# Altium footprint library GC-PcbLib1.PcbLib: 22 footprints (part 2 of 2)
Each footprint in its own frame and in the unit in brackets; x right, y up, seen from the top. Pads: shape width x height; smd on the part's side, far side on the other; paste and mask are expansions set on the pad; w line width, h text height; cw(c..) or ccw(c..) is an arc to the next point about the centre after c.
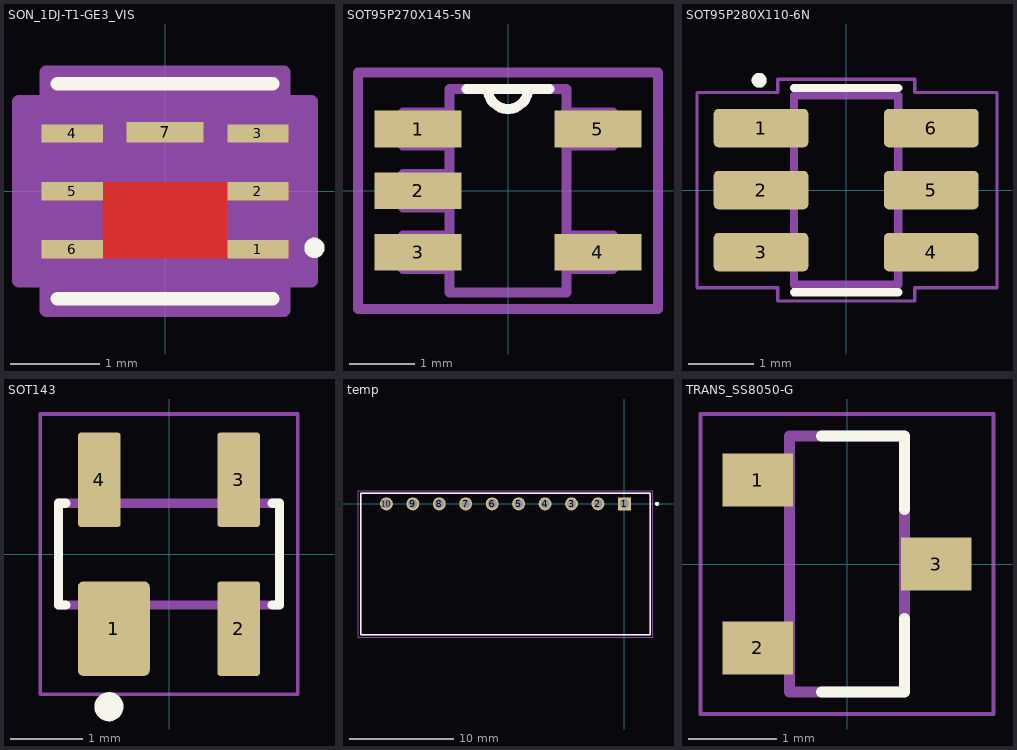
[diagram p1: the footprints below, top view; thin cyan lines are the x and y axes]

## SON_1DJ-T1-GE3_VIS [mil]
pads (7):
  rect 27x8 smd paste+0 mask+0: 1(41,-25.59) 2(41,0) 3(41,25.59) 4(-41,25.59) 5(-41,0) 6(-41,-25.59)
  rect 34x9 smd paste-17 mask-17: 7(0,26.14)
Top Layer:
  region: -54.5,-4 -54.5,4 54.5,4 54.5,-4 27.5,-4 27.5,-21.59 54.5,-21.59 54.5,-29.59 -54.5,-29.59 -54.5,-21.59 -27.5,-21.59 -27.5,-4
Top Overlay:
  circle w5: c66,-25 r2
  lines w6: -47.5,-47.5 47.5,-47.5 ; -47.5,47.5 47.5,47.5
Top Paste:
  region: -54.5,4 27.5,4 54.5,4 54.5,-4 27.5,-4 27.5,-21.59 54.5,-21.59 54.5,-29.59 -54.5,-29.59 -54.5,-21.59 -27.5,-21.59 -27.5,-4 -54.5,-4
Top Solder:
  region: -54.5,-4 -54.5,4 54.5,4 54.5,-4 27.5,-4 27.5,-21.59 54.5,-21.59 54.5,-29.59 -54.5,-29.59 -54.5,-21.59 -27.5,-21.59 -27.5,-4
Top 3D Body:
  lines w0: -12,42.5 ccw(c0,42.5) 12,42.5
  lines w1: -42.5,-42.5 42.5,-42.5 42.5,42.5 -42.5,42.5 -42.5,-42.5
Top Courtyard:
  region: -52.5,-39.59 -64.5,-39.59 -64.5,39.59 -52.5,39.59 -52.5,52.5 52.5,52.5 52.5,39.59 64.5,39.59 64.5,-39.59 52.5,-39.59 52.5,-52.5 -52.5,-52.5
  lines w6: -64.5,-39.59 -64.5,39.59 -52.5,39.59 -52.5,52.5 52.5,52.5 52.5,39.59 64.5,39.59 64.5,-39.59 52.5,-39.59 52.5,-52.5 -52.5,-52.5 -52.5,-39.59 -64.5,-39.59
3D body "SIA427ADJ-T1-GE3.STEP": height 31.5, standoff 0, extent -41,-40.35 39.71,40.35

## SOT95P270X145-5N [mil]
pads (5):
  rect 52x22 smd: 1(-54,37) 2(-54,0) 3(-54,-37) 4(54,-37) 5(54,37)
Top Overlay:
  lines w6: -25,61 -12,61 ; 25,61 12,61 ; -12,61 ccw(c0,61) 12,61 ; -12,61 12,61
Top 3D Body:
  lines w6: -35,-47 -35,-61 35,-61 35,-47 ; -35,-47 -35,-27 ; -35,-47 -63,-47 -63,-27 -35,-27 ; -35,-27 -35,-10 ; -35,-10 -35,10 ; -35,-10 -63,-10 -63,10 -35,10 ; -35,10 -35,27 ; -35,27 -35,47 ; -35,27 -63,27 -63,47 -35,47 ; -35,47 -35,61 -12,61 ; -12,61 ccw(c0,61) 12,61 ; -12,61 12,61 ; 12,61 35,61 35,47 ; 35,-47 35,-27 ; 35,-47 63,-47 63,-27 35,-27 ; 35,-27 35,27 ; 35,27 35,47 ; 35,27 63,27 63,47 35,47
Top Courtyard:
  lines w6: -90,-71 90,-71 90,71 -90,71 -90,-71
3D body "MCP6071T-E_OT.STEP": height 57.09, standoff 0, extent -55.15,-56.09 51.15,58.09

## SOT95P280X110-6N [mm]
pads (6):
  rrect25% 1.45x0.59 smd: 1(-1.305,0.95) 2(-1.305,0) 3(-1.305,-0.95) 4(1.305,-0.95) 5(1.305,0) 6(1.305,0.95)
Top Overlay:
  circle w0.127: c-1.333,1.683 r0.051
  lines w0.127: -0.8,-1.565 0.8,-1.565 ; -0.8,1.565 0.8,1.565
Top 3D Body:
  circle w0.127: c-1.333,1.683 r0.051
  lines w0.127: -0.8,-1.45 -0.8,-0.725 -0.8,0.725 -0.8,1.45 0.8,1.45 0.8,-1.45 -0.8,-1.45
Top Courtyard:
  lines w0.05: -2.286,-1.495 -2.286,1.495 -1.05,1.495 -1.05,1.7 1.05,1.7 1.05,1.495 2.311,1.495 2.311,-1.495 1.05,-1.495 1.05,-1.7 -1.05,-1.7 -1.05,-1.495 -2.286,-1.495
3D body "FDC6561AN.STEP": height 1.1, standoff 0, extent -1.4,-1.475 1.35,1.475

## SOT143 [mm]
pads (4):
  rrect15% 0.99x1.3 smd: 1(-0.76,-1.025)
  rrect15% 0.59x1.3 smd: 2(0.96,-1.025) 3(0.96,1.025) 4(-0.96,1.025)
Top Overlay:
  circle w0.2: c-0.827,-2.1 r0.1
  lines w0.127: -1.42,-0.7 -1.52,-0.7 -1.52,0.7 -1.42,0.7 ; 1.42,-0.7 1.52,-0.7 1.52,0.7 1.42,0.7
Top 3D Body:
  lines w0.127: -1.52,-0.7 1.52,-0.7 1.52,0.7 -1.52,0.7 -1.52,-0.7
Top Courtyard:
  lines w0.05: -1.77,-1.93 1.77,-1.93 1.77,1.93 -1.77,1.93 -1.77,-1.93
3D body "SP0503BAHTG--3DModel-STEP-56544.STEP": height 1.22, standoff 0, extent -1.185,-1.333 1.185,1.587

## temp [mm]
pads (10):
  rect 1.24x1.24 hole 0.89: 1(0,0)
  round 1.24 hole 0.89: 2(-2.54,0) 3(-5.08,0) 4(-7.62,0) 5(-10.16,0) 6(-12.7,0) 7(-15.24,0) 8(-17.78,0) 9(-20.32,0) 10(-22.86,0)
Top Overlay:
  circle w0.2: c3.125,0 r0.1
  lines w0.127: -25.335,-12.57 2.475,-12.57 2.475,1.02 -25.335,1.02 -25.335,-12.57
Top 3D Body:
  circle w0.2: c3.125,0 r0.1
  lines w0.127: -25.335,-12.57 2.475,-12.57 ; -25.335,-12.57 2.475,-12.57 ; -25.335,-12.57 -25.335,1.02 2.475,1.02 2.475,-12.57
Top Courtyard:
  lines w0.05: -25.585,-12.82 2.725,-12.82 2.725,1.27 -25.585,1.27 -25.585,-12.82
3D body "c-6-104935-0-k-3d.stp": height 4.06, standoff -6.22, extent -25.284,-12.625 2.526,0.965

## TRANS_SS8050-G [mm]
height 1.05
pads (3):
  rect 0.8x0.6 smd: 1(-1.01,0.95) 2(-1.01,-0.95) 3(1.01,0)
Top Overlay:
  lines w0.127: -0.29,-1.45 0.65,-1.45 0.65,-0.62 ; -0.29,1.45 0.65,1.45 0.65,0.62
Top 3D Body:
  lines w0.127: -0.65,-1.45 -0.65,1.45 0.65,1.45 0.65,-1.45 -0.65,-1.45
Top Courtyard:
  lines w0.05: -1.66,-1.7 1.66,-1.7 1.66,1.7 -1.66,1.7 -1.66,-1.7
3D body "SS8050-G--3DModel-STEP-1.STEP": height 1.14, standoff 0, extent -1.2,-1.448 1.2,1.448